# Altium integrated library WS-TASV SMD Tact Switch 5X5 mm with ground terminal.IntLib: 11 symbols
Pins are listed as number, name and electrical type; pins without a type are passive.

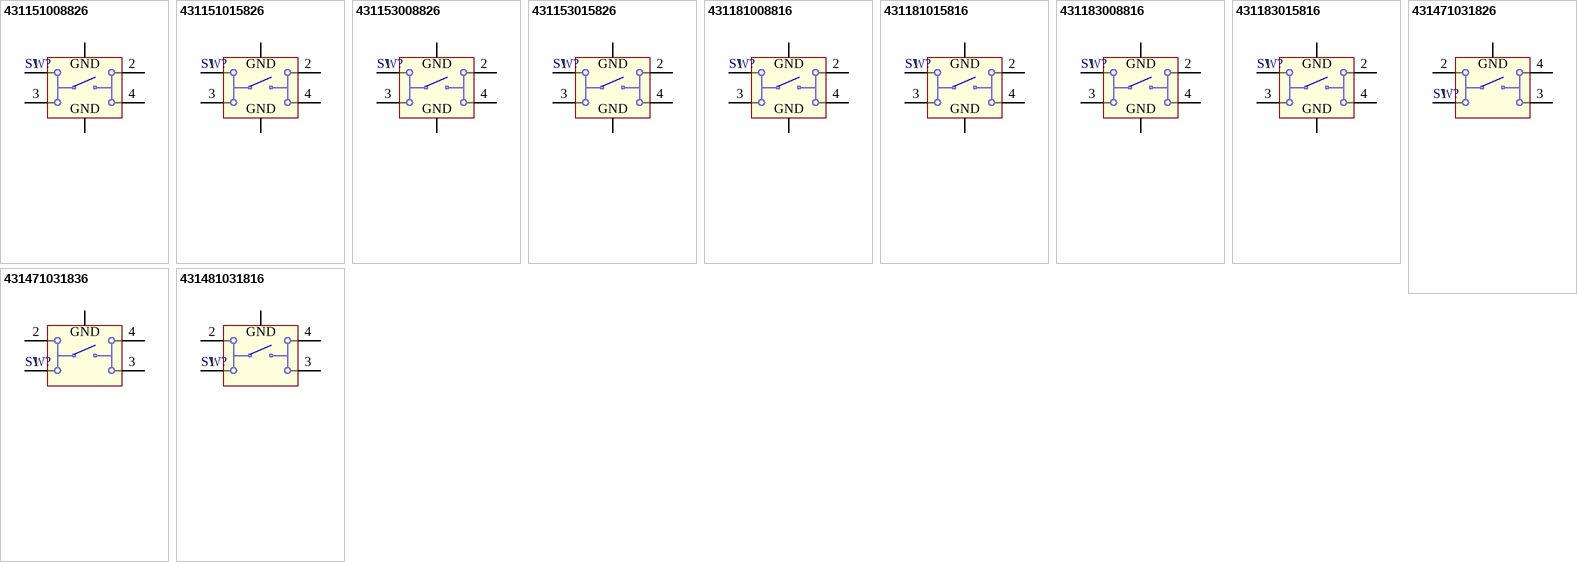
[diagram p0: symbols 431151008826 to 431481031816]

## 431151008826
designator SW?
WS-TASV SMD Tact Switch 5X5 mm with ground terminal; PartNumber: 431151008826; NoPins: 04; PackageReference: 431151008826; ComponentLink1Description: Manufacturer URL; ComponentLink1URL: http://www.we-online.com; ComponentLink2Description: Datasheet; ComponentLink2URL: http://katalog.we-online.de/em/datasheet/431151008826.pdf
footprint 431151008826 (5*5mm vertical type, SMD, height 0.8mm, no actuator, 260gf, Grounded Terminal, T&R)
pins: 1, 2, 3, 4, 5, 6
text: GND

## 431151015826
designator SW?
WS-TASV SMD Tact Switch 5X5 mm with ground terminal; PartNumber: 431151015826; NoPins: 04; PackageReference: 431151015826; ComponentLink1Description: Manufacturer URL; ComponentLink1URL: http://www.we-online.com; ComponentLink2Description: Datasheet; ComponentLink2URL: http://katalog.we-online.de/em/datasheet/431151015826.pdf
footprint 431151015826 (5*5mm vertical type, SMD, height 1.5mm, white actuator, 260gf, Grounded Terminal, T&R)
pins: 1, 2, 3, 4, 5, 6
text: GND

## 431153008826
designator SW?
WS-TASV SMD Tact Switch 5X5 mm with ground terminal; PartNumber: 431153008826; NoPins: 04; PackageReference: 431153008826; ComponentLink1Description: Manufacturer URL; ComponentLink1URL: http://www.we-online.com; ComponentLink2Description: Datasheet; ComponentLink2URL: http://katalog.we-online.de/em/datasheet/431153008826.pdf
footprint 431153008826 (5*5mm vertical type,J-Bend SMD,  height 0.8mm, no actuator, 260gf, Grounded Terminal, T&R)
pins: 1, 2, 3, 4, 5, 6
text: GND

## 431153015826
designator SW?
WS-TASV SMD Tact Switch 5X5 mm with ground terminal; PartNumber: 431153015826; NoPins: 04; PackageReference: 431153015826; ComponentLink1Description: Manufacturer URL; ComponentLink1URL: http://www.we-online.com; ComponentLink2Description: Datasheet; ComponentLink2URL: http://katalog.we-online.de/em/datasheet/431153015826.pdf
footprint 431153015826 (5*5mm vertical type,J-Bend SMD, height 1.5mm, white actuator, 260gf, Grounded Terminal, T&R)
pins: 1, 2, 3, 4, 5, 6
text: GND

## 431181008816
designator SW?
WS-TASV SMD Tact Switch 5X5 mm with ground terminal; PartNumber: 431181008816; NoPins: 04; PackageReference: 431181008816; ComponentLink1Description: Manufacturer URL; ComponentLink1URL: http://www.we-online.com; ComponentLink2Description: Datasheet; ComponentLink2URL: http://katalog.we-online.de/em/datasheet/431181008816.pdf
footprint 431181008816 (5*5mm vertical type, SMD, height 0.8mm, no actuator, 160gf, Grounded Terminal, T&R)
pins: 1, 2, 3, 4, 5, 6
text: GND

## 431181015816
designator SW?
WS-TASV SMD Tact Switch 5X5 mm with ground terminal; PartNumber: 431181015816; NoPins: 04; PackageReference: 431181015816; ComponentLink1Description: Manufacturer URL; ComponentLink1URL: http://www.we-online.com; ComponentLink2Description: Datasheet; ComponentLink2URL: http://katalog.we-online.de/em/datasheet/431181015816.pdf
footprint 431181015816 (5*5mm vertical type, SMD, height 1.5mm, black actuator, 160gf, Grounded Terminal, T&R)
pins: 1, 2, 3, 4, 5, 6
text: GND

## 431183008816
designator SW?
WS-TASV SMD Tact Switch 5X5 mm with ground terminal; PartNumber: 431183008816; NoPins: 04; PackageReference: 431183008816; ComponentLink1Description: Manufacturer URL; ComponentLink1URL: http://www.we-online.com; ComponentLink2Description: Datasheet; ComponentLink2URL: http://katalog.we-online.de/em/datasheet/431153008826.pdf
footprint 431183008816 (5*5mm vertical type,J-Bend SMD, height 0.8mm, no actuator, 160gf, Grounded Terminal, T&R)
pins: 1, 2, 3, 4, 5, 6
text: GND

## 431183015816
designator SW?
WS-TASV SMD Tact Switch 5X5 mm with ground terminal; PartNumber: 431183015816; NoPins: 04; PackageReference: 431183015816; ComponentLink1Description: Manufacturer URL; ComponentLink1URL: http://www.we-online.com; ComponentLink2Description: Datasheet; ComponentLink2URL: http://katalog.we-online.de/em/datasheet/431183015816.pdf
footprint 431183015816 (5*5mm vertical type,J-Bend SMD, height 1.5mm, black actuator, 160gf, Grounded Terminal, T&R)
pins: 1, 2, 3, 4, 5, 6
text: GND

## 431471031826
designator SW?
WS-TASV SMD Tact Switch 6X6 mm with ground terminal; PartNumber: 431471031826; NoPins: 04; PackageReference: 431471031826; ComponentLink1Description: Manufacturer URL; ComponentLink1URL: http://www.we-online.com; ComponentLink2Description: Datasheet; ComponentLink2URL: http://katalog.we-online.de/em/datasheet/431471031826.pdf
footprint 431471031826 (6*6mm vertical type, SMD, height 3.1mm, white actuator, 260gf, Grounded Terminal, T&R)
pins: 1, 2, 3, 4, 5
text: GND

## 431471031836
designator SW?
WS-TASV SMD Tact Switch 6X6 mm with ground terminal; PartNumber: 431471031836; NoPins: 04; PackageReference: 431471031836; ComponentLink1Description: Manufacturer URL; ComponentLink1URL: http://www.we-online.com; ComponentLink2Description: Datasheet; ComponentLink2URL: http://katalog.we-online.de/em/datasheet/431471031836.pdf
footprint 431471031836 (6*6mm vertical type, SMD, height 3.1mm, salmon actuator, 360gf, Grounded Terminal, T&R)
pins: 1, 2, 3, 4, 5
text: GND

## 431481031816
designator SW?
WS-TASV SMD Tact Switch 6X6 mm with ground terminal; PartNumber: 431481031816; NoPins: 04; PackageReference: 431481031816; ComponentLink1Description: Manufacturer URL; ComponentLink1URL: http://www.we-online.com; ComponentLink2Description: Datasheet; ComponentLink2URL: http://katalog.we-online.de/em/datasheet/431481031816.pdf
footprint 431481031816 (6*6mm vertical type, SMD, height 3.1mm, black actuator, 160gf, Grounded Terminal, T&R)
pins: 1, 2, 3, 4, 5
text: GND